# Altium footprint library L9958.PcbLib: 1 footprints
Each footprint in its own frame and in the unit in brackets; x right, y up, seen from the top. Pads: shape width x height; smd on the part's side, far side on the other; paste and mask are expansions set on the pad; w line width, h text height; cw(c..) or ccw(c..) is an arc to the next point about the centre after c.
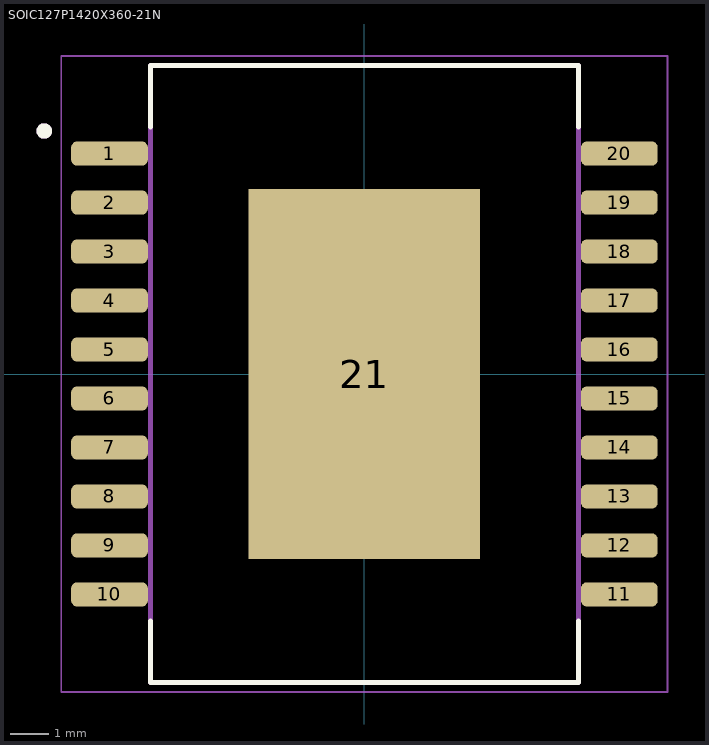
[diagram p0: the footprint, top view; thin cyan lines are the x and y axes]

## SOIC127P1420X360-21N [mm]
pads (21):
  rrect50% 1.99x0.63 smd: 1(-6.61,5.715) 2(-6.61,4.445) 3(-6.61,3.175) 4(-6.61,1.905) 5(-6.61,0.635) 6(-6.61,-0.635) 7(-6.61,-1.905) 8(-6.61,-3.175) 9(-6.61,-4.445) 10(-6.61,-5.715) 11(6.61,-5.715) 12(6.61,-4.445) 13(6.61,-3.175) 14(6.61,-1.905) 15(6.61,-0.635) 16(6.61,0.635) 17(6.61,1.905) 18(6.61,3.175) 19(6.61,4.445) 20(6.61,5.715)
  rect 6x9.6 smd paste-6: 21(0,0)
Top Overlay:
  circle w0.2: c-8.3,6.3 r0.1
  lines w0.127: -5.55,-6.4 -5.55,-8 5.55,-8 5.55,-6.4 ; -5.55,6.4 -5.55,8 5.55,8 5.55,6.4
Top Paste:
  region: 0.645,0.18 -0.645,0.18 -0.645,1.42 0.645,1.42
  region: 0.645,-1.42 -0.645,-1.42 -0.645,-0.18 0.645,-0.18
  region: 0.645,1.78 -0.645,1.78 -0.645,3.02 0.645,3.02
  region: 0.645,3.38 -0.645,3.38 -0.645,4.62 0.645,4.62
  region: 0.645,-3.02 -0.645,-3.02 -0.645,-1.78 0.645,-1.78
  region: 0.645,-4.62 -0.645,-4.62 -0.645,-3.38 0.645,-3.38
  region: -1,0.18 -2.29,0.18 -2.29,1.42 -1,1.42
  region: -1,-1.42 -2.29,-1.42 -2.29,-0.18 -1,-0.18
  region: -1,1.78 -2.29,1.78 -2.29,3.02 -1,3.02
  region: -1,3.38 -2.29,3.38 -2.29,4.62 -1,4.62
  region: -1,-3.02 -2.29,-3.02 -2.29,-1.78 -1,-1.78
  region: -1,-4.62 -2.29,-4.62 -2.29,-3.38 -1,-3.38
  region: 2.29,0.18 1,0.18 1,1.42 2.29,1.42
  region: 2.29,-1.42 1,-1.42 1,-0.18 2.29,-0.18
  region: 2.29,1.78 1,1.78 1,3.02 2.29,3.02
  region: 2.29,3.38 1,3.38 1,4.62 2.29,4.62
  region: 2.29,-3.02 1,-3.02 1,-1.78 2.29,-1.78
  region: 2.29,-4.62 1,-4.62 1,-3.38 2.29,-3.38
Mechanical 13:
  circle w0.2: c-8.3,6.3 r0.1
  lines w0.127: -5.55,-8 5.55,-8 5.55,8 -5.55,8 -5.55,-8
Mechanical 15:
  lines w0.05: -7.86,-8.25 7.86,-8.25 7.86,8.25 -7.86,8.25 -7.86,-8.25